# Altium schematic symbol library jack_3.5_ST-214C.SchLib: 1 symbol
Pins are listed as number, name and electrical type; pins without a type are passive.

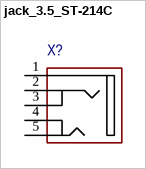
[diagram p0: symbol jack_3.5_ST-214C]

## jack_3.5_ST-214C
designator X?  (value not drawn)
ManufacturerPartNumber: ManufacturerPartNumber
pins: 1, 2, 3, 4, 5